# Altium schematic symbol library current_sense.SchLib: 6 symbols
Pins are listed as number, name and electrical type; pins without a type are passive.

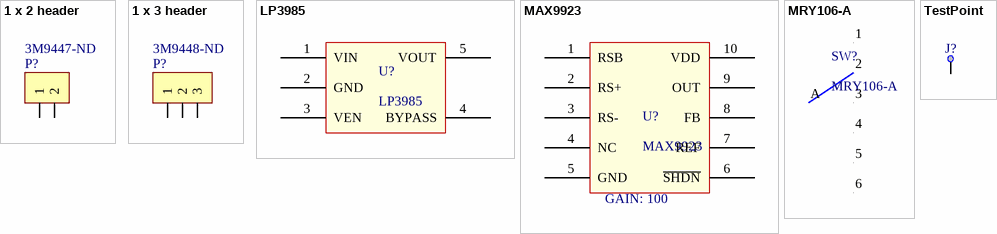
[diagram p0: symbols 1 x 2 header to TestPoint]

## 1 x 2 header
designator P?  Supplier Part Number 1: 3M9447-ND  (hidden comment: 1 x 2 header)
100 mils standard header; Supplier 1: Digi-Key
footprint 1x2 header (1x2 header, 100 mils)
pins: 1, 2

## 1 x 3 header
designator P?  Supplier Part Number 1: 3M9448-ND  (hidden comment: 1 x 3 header)
100 mils standard header; Supplier 1: Digi-Key
footprint 1x3 header (1x3 header, 100 mils)
pins: 1, 2, 3

## LP3985
designator U?
150mA Low-Noise Ultra Low-Dropout CMOS Voltage Regulator; Supplier 1: Digi-Key; Supplier Part Number 1: LP3985IM5-3.3/NOPBCT-ND
footprint SOT23-5 (SOT23, 5-Leads, Body 2.9x1.6mm, Pitch 0.95mm, Lead Span 2.8mm, IPC High Density)
pins: 1 VIN, 2 GND, 3 VEN, 4 BYPASS, 5 VOUT

## MAX9923
designator U?  GAIN: 100
ultra-precision, high-side current-sense amplifier; Supplier 1: Digi-Key; Supplier Part Number 1: MAX9923HEUB+-ND
footprint 10umax (TSSOP, 10-Leads, Body 3.00x3.00mm, Pitch 0.50mm, IPC Medium Density)
pins: 1 RSB, 2 RS+, 3 RS-, 4 NC, 5 GND, 6 ~{SHDN}, 7 REF, 8 FB, 9 OUT, 10 VDD

## MRY106-A
designator SW?
SW ROTARY SP BLK KNOB 125V; Supplier 1: Digi-Key; Supplier Part Number 1: 360-2379-ND
footprint MRY switch
pins: 1, 2, 3, 4, 5, 6, A

## TestPoint
designator J?, comment 5004  (value not drawn)
TEST POINT PC MINI .040"D YELLOW; Supplier 1: Digi-Key; Supplier Part Number 1: 5004K-ND; datasheet: http://mail.keyelco.com/ENG._DEPT/PDF%20CAT%20NO%20Drawings/5004.pdf
footprint TestPoint
pins: 1 TB